# EAGLE library part 233-204/000-017 (library con-wago_233)
Serie 233, Stand: 01.01.2012. Die jeweils aktuellen Daten zu diesem Artikel finden Sie in unserem Produktkatalog, den Sie unter www.wago.com einsehen können. As of: 01/01/2012. Please find the newest data for this article in our product catalogue, which can be viewed under www.wago.com.
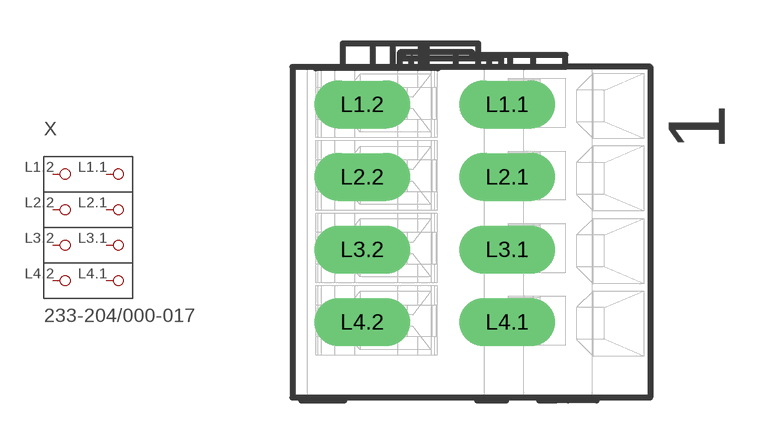
[diagram p122: symbol with the pads of P-233-204; footprint P-233-204]

Designator prefix X

## 233-204/000-017  [P-233-204]
L1.1  P1.1
L1.2  P1.2
L2.1  P2.1
L2.2  P2.2
L3.1  P3.1
L3.2  P3.2
L4.1  P4.1
L4.2  P4.2

## Footprint P-233-204 (pad centres in mm)
drill 1.1 long: L1.1 1.238,4.05; L1.2 -3.762,4.05; L2.1 1.238,1.55; L2.2 -3.762,1.55; L3.1 1.238,-0.95; L3.2 -3.762,-0.95; L4.1 1.238,-3.45; L4.2 -3.762,-3.45